# Altium footprint library QUAN.PcbLib: 216 footprints (part 2 of 14)
Each footprint in its own frame and in the unit in brackets; x right, y up, seen from the top. Pads: shape width x height; smd on the part's side, far side on the other; paste and mask are expansions set on the pad; w line width, h text height; cw(c..) or ccw(c..) is an arc to the next point about the centre after c.
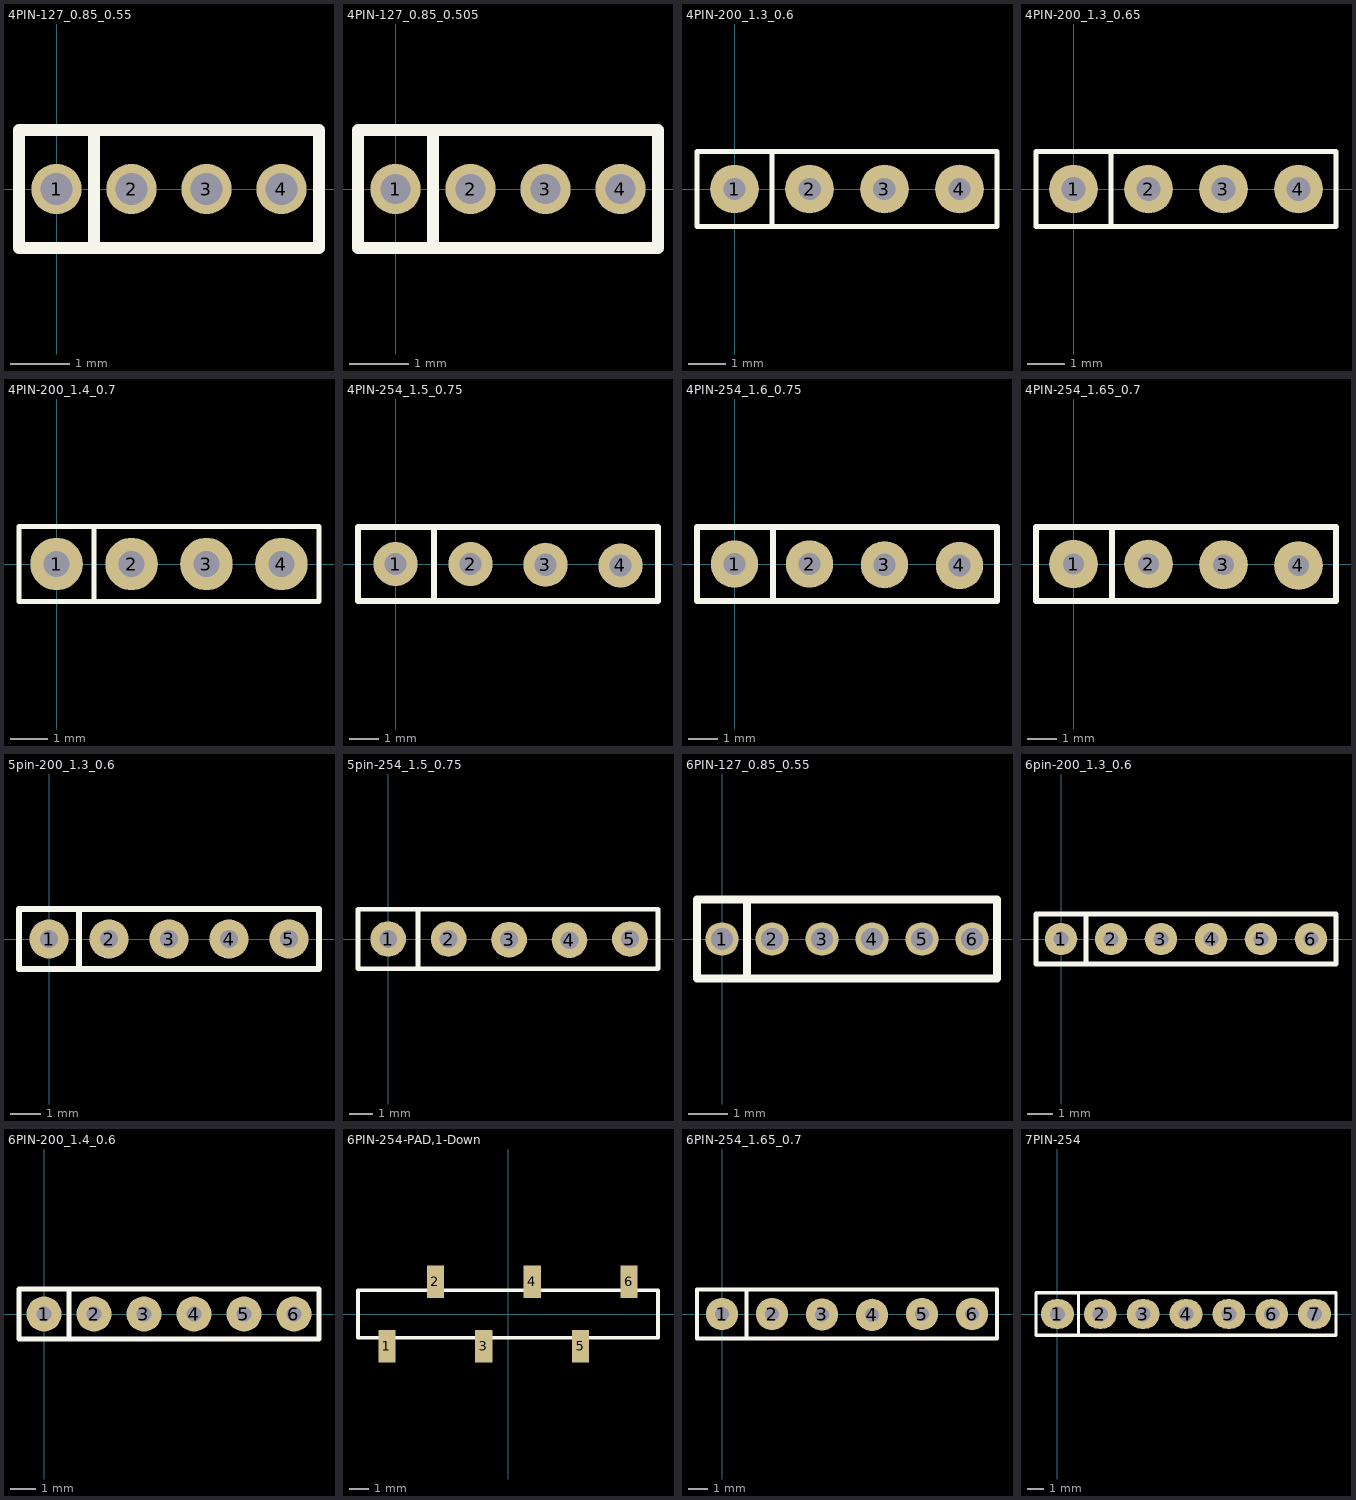
[diagram p1: the footprints below, top view; thin cyan lines are the x and y axes]

## 4PIN-127_0.85_0.55 [mm]
pads (4):
  round 0.85 hole 0.55: 1(0,0) 2(1.27,0) 3(2.54,0) 4(3.81,0)
Top Overlay:
  lines w0.2: 0.635,-1 0.635,1 ; -0.635,-1 4.445,-1 4.445,1 -0.635,1 -0.635,-1
3D body "BD022-02-A-A-0210-0210-L-D.stp": height 3.6, standoff -2.1, extent -0.635,-1.25 1.905,1.25
3D body "BD022-02-A-A-0210-0210-L-D.stp": height 3.6, standoff -2.1, extent 1.905,-1.25 4.445,1.25

## 4PIN-127_0.85_0.505 [mm]
pads (4):
  round 0.85 hole 0.505: 1(0,0) 2(1.27,0) 3(2.54,0) 4(3.81,0)
Top Overlay:
  lines w0.2: 0.635,-1 0.635,1 ; -0.635,-1 4.445,-1 4.445,1 -0.635,1 -0.635,-1
3D body "BD022-02-A-A-0210-0210-L-D.stp": height 3.6, standoff -2.1, extent 1.905,-1.25 4.445,1.25
3D body "BD022-02-A-A-0210-0210-L-D.stp": height 3.6, standoff -2.1, extent -0.635,-1.25 1.905,1.25

## 4PIN-200_1.3_0.6 [mm]
pads (4):
  round 1.3 hole 0.6: 1(0,0) 2(2,0) 3(4,0) 4(6,0)
Top Overlay:
  lines w0.127: 1,-1 1,1 ; -1,-1 -1,1 7,1 7,-1 -1,-1
3D body "User Library-2-pinasm_asm.STEP": height 5.95, standoff -2.75, extent 2.99,-1.07 6.99,0.93
3D body "User Library-2-pinasm_asm.STEP": height 5.95, standoff -2.75, extent -1.01,-1.07 2.99,0.93

## 4PIN-200_1.3_0.65 [mm]
pads (4):
  round 1.3 hole 0.65: 1(0,0) 2(2,0) 3(4,0) 4(6,0)
Top Overlay:
  lines w0.127: 1,-1 1,1 ; -1,-1 7,-1 7,1 -1,1 -1,-1
3D body "User Library-2-pinasm_asm.STEP": height 5.95, standoff -2.75, extent -1.01,-1.07 2.99,0.93
3D body "User Library-2-pinasm_asm.STEP": height 5.95, standoff -2.75, extent 2.99,-1.07 6.99,0.93

## 4PIN-200_1.4_0.7 [mm]
pads (4):
  round 1.4 hole 0.7: 1(0,0) 2(2,0) 3(4,0) 4(6,0)
Top Overlay:
  lines w0.127: 1,-1 1,1 ; -1,-1 7,-1 7,1 -1,1 -1,-1
3D body "User Library-2-pinasm_asm.STEP": height 5.95, standoff -2.75, extent 2.99,-1.07 6.99,0.93
3D body "User Library-2-pinasm_asm.STEP": height 5.95, standoff -2.75, extent -1.01,-1.07 2.99,0.93

## 4PIN-254_1.5_0.75 [mm]
pads (4):
  round 1.5 hole 0.75: 1(0,0) 2(2.54,0) 3(5.08,-0.025) 4(7.62,-0.05)
Top Overlay:
  lines w0.2: 1.3,-1.25 1.3,1.25 ; -1.27,-1.25 -1.27,1.25 8.89,1.25 8.89,-1.25 -1.27,-1.25
3D body "User Library-Header Vertical 2_54mm Pitch2-1.STEP": height 5.94, standoff -2.94, extent -1.27,-1.25 3.81,1.29
3D body "User Library-Header Vertical 2_54mm Pitch2-1.STEP": height 5.94, standoff -2.94, extent 3.81,-1.25 8.89,1.29

## 4PIN-254_1.6_0.75 [mm]
pads (4):
  round 1.6 hole 0.75: 1(0,0) 2(2.54,0) 3(5.08,-0.025) 4(7.62,-0.05)
Top Overlay:
  lines w0.2: 1.3,-1.25 1.3,1.25 ; -1.27,-1.25 -1.27,1.25 8.89,1.25 8.89,-1.25 -1.27,-1.25
3D body "User Library-Header Vertical 2_54mm Pitch2-1.STEP": height 5.94, standoff -2.94, extent 3.81,-1.25 8.89,1.29
3D body "User Library-Header Vertical 2_54mm Pitch2-1.STEP": height 5.94, standoff -2.94, extent -1.27,-1.25 3.81,1.29

## 4PIN-254_1.65_0.7 [mm]
pads (4):
  round 1.65 hole 0.7: 1(0,0) 2(2.54,0) 3(5.08,-0.025) 4(7.62,-0.05)
Top Overlay:
  lines w0.2: 1.3,-1.25 1.3,1.25 ; -1.27,-1.25 8.89,-1.25 8.89,1.25 -1.27,1.25 -1.27,-1.25
3D body "User Library-Header Vertical 2_54mm Pitch2-1.STEP": height 5.94, standoff -2.94, extent -1.27,-1.25 3.81,1.29
3D body "User Library-Header Vertical 2_54mm Pitch2-1.STEP": height 5.94, standoff -2.94, extent 3.81,-1.25 8.89,1.29

## 5pin-200_1.3_0.6 [mm]
pads (5):
  round 1.3 hole 0.6: 1(0,0) 2(2,0) 3(4,0) 4(6,0) 5(8,0)
Top Overlay:
  lines w0.2: 1,-1 1,0.975 ; -1,-1 -1,1 9,1 9,-1 -1,-1
3D body "User Library-2-pinasm_asm.STEP": height 5.95, standoff -2.75, extent 4.99,-1.07 8.99,0.93
3D body "User Library-2-pinasm_asm.STEP": height 5.95, standoff -2.75, extent -1.01,-1.07 2.99,0.93
3D body "User Library-2-pinasm_asm.STEP": height 5.95, standoff -2.75, extent 2.99,-1.07 6.99,0.93

## 5pin-254_1.5_0.75 [mm]
pads (5):
  round 1.5 hole 0.75: 1(0,0) 2(2.54,0) 3(5.08,-0.025) 4(7.62,-0.05) 5(10.16,0)
Top Overlay:
  lines w0.2: 1.25,-1.2 1.25,1.25 ; -1.27,-1.25 -1.27,1.25 11.34,1.25 11.34,-1.25 -1.27,-1.25
3D body "User Library-Header Vertical 2_54mm Pitch2-1.STEP": height 5.94, standoff -2.94, extent 6.35,-1.3 11.43,1.24
3D body "User Library-Header Vertical 2_54mm Pitch2-1.STEP": height 5.94, standoff -2.94, extent 3.81,-1.25 8.89,1.29
3D body "User Library-Header Vertical 2_54mm Pitch2-1.STEP": height 5.94, standoff -2.94, extent -1.27,-1.25 3.81,1.29

## 6PIN-127_0.85_0.55 [mm]
pads (6):
  round 0.85 hole 0.55: 1(0,0) 2(1.27,0) 3(2.54,0) 4(3.81,0) 5(5.08,0) 6(6.35,0)
Top Overlay:
  lines w0.2: 0.635,-1 0.635,1 ; -0.635,-1 -0.635,1 6.985,1 6.985,-1 -0.635,-1

## 6pin-200_1.3_0.6 [mm]
pads (6):
  round 1.3 hole 0.6: 1(0,0) 2(2,0) 3(4,0) 4(6,0) 5(8,0) 6(10,0)
Top Overlay:
  lines w0.2: 1,-1 1,0.975 ; -1,-1 11,-1 11,1 -1,1 -1,-1
3D body "User Library-2-pinasm_asm.STEP": height 5.95, standoff -2.75, extent 2.99,-1.07 6.99,0.93
3D body "User Library-2-pinasm_asm.STEP": height 5.95, standoff -2.75, extent -1.01,-1.07 2.99,0.93
3D body "User Library-2-pinasm_asm.STEP": height 5.95, standoff -2.75, extent 6.99,-1.07 10.99,0.93

## 6PIN-200_1.4_0.6 [mm]
pads (6):
  round 1.4 hole 0.6: 1(0,0) 2(2,0) 3(4,0) 4(6,0) 5(8,0) 6(10,0)
Top Overlay:
  lines w0.2: 1,-1 1,0.975 ; -1,-1 11,-1 11,1 -1,1 -1,-1
3D body "User Library-2-pinasm_asm.STEP": height 5.95, standoff -2.75, extent 6.99,-1.07 10.99,0.93
3D body "User Library-2-pinasm_asm.STEP": height 5.95, standoff -2.75, extent -1.01,-1.07 2.99,0.93
3D body "User Library-2-pinasm_asm.STEP": height 5.95, standoff -2.75, extent 2.99,-1.07 6.99,0.93

## 6PIN-254-PAD,1-Down [mm] "6PIN-254-PAD,1-Down"
pads (6):
  rect 0.9x1.7 smd: 1(-6.35,-1.7) 2(-3.81,1.7) 3(-1.27,-1.7) 4(1.27,1.7) 5(3.81,-1.7) 6(6.35,1.7)
Top Overlay:
  lines w0.2: -7.87,-1.25 7.87,-1.25 7.87,1.25 -7.87,1.25 -7.87,-1.25

## 6PIN-254_1.65_0.7 [mm]
pads (6):
  round 1.65 hole 0.7: 1(0,0) 2(2.54,0) 3(5.08,-0.025) 4(7.62,-0.05) 5(10.16,0) 6(12.7,0)
Top Overlay:
  lines w0.2: 1.25,-1.2 1.25,1.25 ; -1.27,-1.25 13.97,-1.25 13.97,1.25 -1.27,1.25 -1.27,-1.25
3D body "User Library-Header Vertical 2_54mm Pitch2-1.STEP": height 5.94, standoff -2.94, extent 8.89,-1.25 13.97,1.29
3D body "User Library-Header Vertical 2_54mm Pitch2-1.STEP": height 5.94, standoff -2.94, extent 3.81,-1.25 8.89,1.29
3D body "User Library-Header Vertical 2_54mm Pitch2-1.STEP": height 5.94, standoff -2.94, extent -1.27,-1.25 3.81,1.29

## 7PIN-254 [mm]
pads (7):
  oval 1.95x1.75 hole 0.9: 1(0,0) 2(2.54,0) 3(5.08,0) 4(7.62,0) 5(10.16,0) 6(12.7,0) 7(15.24,0)
Top Overlay:
  lines w0.2: 1.25,-1.2 1.25,1.25 ; -1.27,-1.25 16.51,-1.25 16.51,1.25 -1.27,1.25 -1.27,-1.25
3D body "User Library-Header Vertical 2_54mm Pitch2-1.STEP": height 5.94, standoff -2.94, extent 3.84,-1.275 8.92,1.265
3D body "User Library-Header Vertical 2_54mm Pitch2-1.STEP": height 5.94, standoff -2.94, extent -1.24,-1.25 3.84,1.29
3D body "User Library-Header Vertical 2_54mm Pitch2-1.STEP": height 5.94, standoff -2.94, extent 8.92,-1.25 14,1.29
3D body "User Library-Header Vertical 2_54mm Pitch2-1.STEP": height 5.94, standoff -2.94, extent 11.46,-1.25 16.54,1.29